# EAGLE library part SI4735 (library cliffords)
Si4735 AM/FM/SW Receiver
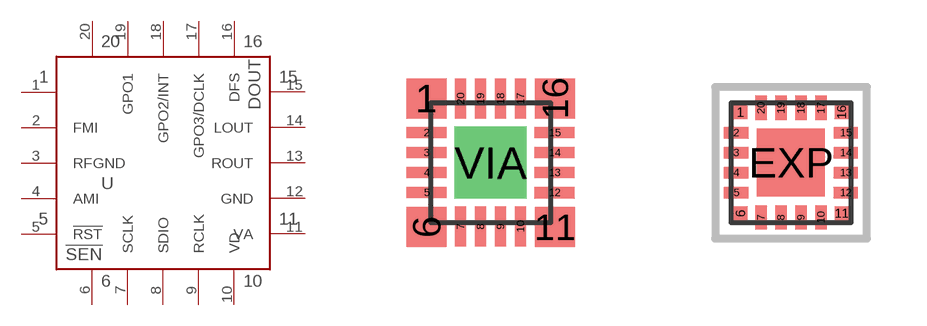
[diagram p1: symbol with the pads of QFN20-HAND; footprints QFN20-HAND, QFN20]

Designator prefix -

## SI4735HAND  [QFN20-HAND]
1  NC  nc
2  FMI  in
3  RFGND  pwr
4  AMI  in
5  !RST  in
6  !SEN  in
7  SCLK  in
8  SDIO
9  RCLK  in
10  VD  pwr
11  VA  pwr
12  GND  pwr
13  ROUT  out
14  LOUT  out
15  DOUT  out
16  DFS  in
17  GPO3/DCLK
18  GPO2/INT  out
19  GPO1  out
20  NC  nc
VIA  PAD  pwr

## SI4735QFN  [QFN20]
1  NC  nc
2  FMI  in
3  RFGND  pwr
4  AMI  in
5  !RST  in
6  !SEN  in
7  SCLK  in
8  SDIO
9  RCLK  in
10  VD  pwr
11  VA  pwr
12  GND  pwr
13  ROUT  out
14  LOUT  out
15  DOUT  out
16  DFS  in
17  GPO3/DCLK
18  GPO2/INT  out
19  GPO1  out
20  NC  nc
EXP  PAD  pwr

## SI4735  [SSOP24]
1  DOUT  out
2  DFS  in
3  GPO3/DCLK
4  GPO2/INT  out
5  GPO1  out
6  NC  nc
7  NC  nc
8  FMI  in
9  RFGND  pwr
10  NC  nc
11  NC  nc
12  AMI  in
13  GND  pwr
14  GND  pwr
15  !RST  in
16  !SEN  in
17  SCLK  in
18  SDIO
19  RCLK  in
20  VD  pwr
21  VA  pwr
23  ROUT  out
24  LOUT  out

## Footprint QFN20-HAND (pad centres in mm)
QFN-20 for hand soldering
smd 1 x 1: 1 -1.61,1.61; 6 -1.61,-1.61; 11 1.61,-1.61; 16 1.61,1.61
smd 1 x 0.279: 2 -1.6,0.75; 3 -1.6,0.25; 4 -1.6,-0.25; 5 -1.6,-0.75; 13 1.6,-0.25; 14 1.6,0.25; 15 1.6,0.75
smd 0.279 x 1: 7 -0.75,-1.6; 8 -0.25,-1.6; 9 0.25,-1.6; 10 0.75,-1.6; 17 0.75,1.6; 18 0.25,1.6; 19 -0.25,1.6; 20 -0.75,1.6
smd 1 x 0.284: 12 1.6,-0.75
drill 1.2 pad 1.7 square: VIA 0,0

## Footprint QFN20 (pad centres in mm)
smd 0.34 x 0.34: 1 -1.265,1.265; 6 -1.265,-1.265; 11 1.265,-1.265; 16 1.265,1.265
smd 0.61 x 0.279: 2 -1.37,0.75; 3 -1.37,0.25; 4 -1.37,-0.25; 5 -1.37,-0.75; 13 1.37,-0.25; 14 1.37,0.25; 15 1.37,0.75
smd 0.279 x 0.61: 7 -0.75,-1.37; 8 -0.25,-1.37; 9 0.25,-1.37; 10 0.75,-1.37; 17 0.75,1.37; 18 0.25,1.37; 19 -0.25,1.37; 20 -0.75,1.37
smd 0.61 x 0.284: 12 1.37,-0.75
smd 1.702 x 1.702: EXP 0,0

## Footprint SSOP24 (pad centres in mm)
SSOP24 for Si475X
smd 0.35 x 1.55: 1 -3.493,-2.6; 2 -2.857,-2.6; 3 -2.223,-2.6; 4 -1.587,-2.6; 5 -0.953,-2.6; 6 -0.318,-2.6; 7 0.318,-2.6; 8 0.953,-2.6; 9 1.587,-2.6; 10 2.223,-2.6; 11 2.857,-2.6; 12 3.493,-2.6; 13 3.493,2.6; 14 2.857,2.6; 15 2.223,2.6; 16 1.587,2.6; 17 0.953,2.6; 18 0.318,2.6; 19 -0.318,2.6; 20 -0.953,2.6; 21 -1.587,2.6; 22 -2.223,2.6; 23 -2.857,2.6; 24 -3.493,2.6